# EAGLE library part 255-503/333-000 (library con-wago_255)
Serie 255, Stand: 01.01.2012. Die jeweils aktuellen Daten zu diesem Artikel finden Sie in unserem Produktkatalog, den Sie unter www.wago.com einsehen können. As of: 01/01/2012. Please find the newest data for this article in our product catalogue, which can be viewed under www.wago.com.
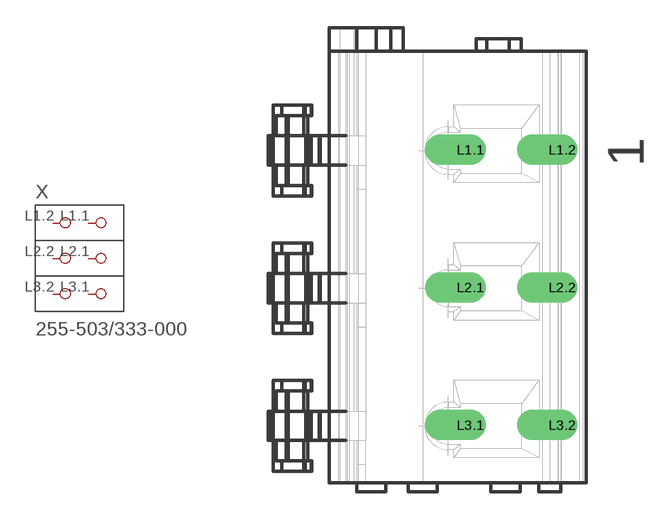
[diagram p46: symbol with the pads of P-255-503; footprint P-255-503]

Designator prefix X

## 255-503/333-000  [P-255-503]
L1.1  P1.1
L1.2  P1.2
L2.1  P2.1
L2.2  P2.2
L3.1  P3.1
L3.2  P3.2

## Footprint P-255-503 (pad centres in mm)
drill 1.1 offset: L1.1 2.359,6; L1.2 7.359,6; L2.1 2.359,-1.5; L2.2 7.359,-1.5; L3.1 2.359,-9; L3.2 7.359,-9